# EAGLE library part HCPL-0700-500E (library WiFiPicoDMX)
Low Input Current, High Gain Optocouplers
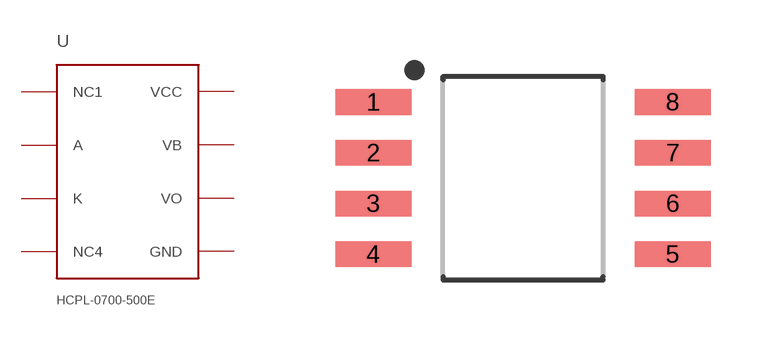
[diagram p5: symbol with the pads of HCPL0700_SO8; footprint HCPL0700_SO8]

Designator prefix U

## HCPL-0700-500EHCPL0700_SO8  [HCPL0700_SO8]
1  NC1  nc
2  A  in
3  K  in
4  NC4  nc
5  GND  pwr
6  VO  out
7  VB  in
8  VCC  pwr

## Footprint HCPL0700_SO8 (pad centres in mm)
Broadcom HCPL-0700 SO-8 manufacturer land pattern: 1.27 mm pitch, 7.49 mm row-centre spacing, 1.90 X 0.64 mm pads.
smd 1.9 x 0.64: 1 -3.745,1.905; 2 -3.745,0.635; 3 -3.745,-0.635; 4 -3.745,-1.905; 5 3.745,-1.905; 6 3.745,-0.635; 7 3.745,0.635; 8 3.745,1.905